# Altium schematic symbol library IXTH140P10T.Schlib: 1 symbol
Pins are listed as number, name and electrical type; pins without a type are passive.

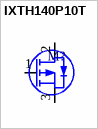
[diagram p0: symbol IXTH140P10T]

## IXTH140P10T
designator M?
650V 47A N-Channel
pins: 1 G, 2 D, 3 S